# Altium schematic symbol library TMM-110-03-G-D.SchLib: 2 symbols
Pins are listed as number, name and electrical type; pins without a type are passive.

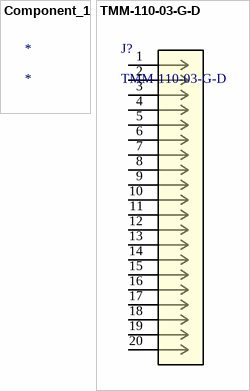
[diagram p0: symbols Component_1 to TMM-110-03-G-D]

## Component_1
designator *

## TMM-110-03-G-D
designator J?
No Description Available; Mfr_Name: Samtec Inc; Copyright: Copyright (C) 2023 Ultra Librarian. All rights reserved.; Manufacturer_Part_Number: TMM-110-03-G-D; Digi-Key_Part_Number_1: SAM10774-ND; RefDes: RefDes; Type: DEV
footprint CONN_TMM-110-XX-XX-D_SAI
pins: 1, 2, 3, 4, 5, 6, 7, 8, 9, 10, 11, 12, 13, 14, 15, 16, 17, 18, 19, 20